# Altium schematic symbol library FS8205A.Schlib: 1 symbol
Pins are listed as number, name and electrical type; pins without a type are passive.

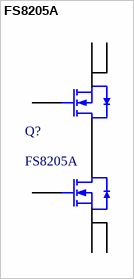
[diagram p0: symbol FS8205A]

## FS8205A
designator Q?
MOS(场效应管)
footprint TSSOP-8_3x4.4x065P
pins: 1 D, 2 S, 3 S, 4 G, 5 G, 6 S, 7 S, 8 D